# EAGLE library part L6390_DRIVER (library motocontro_rev_4)
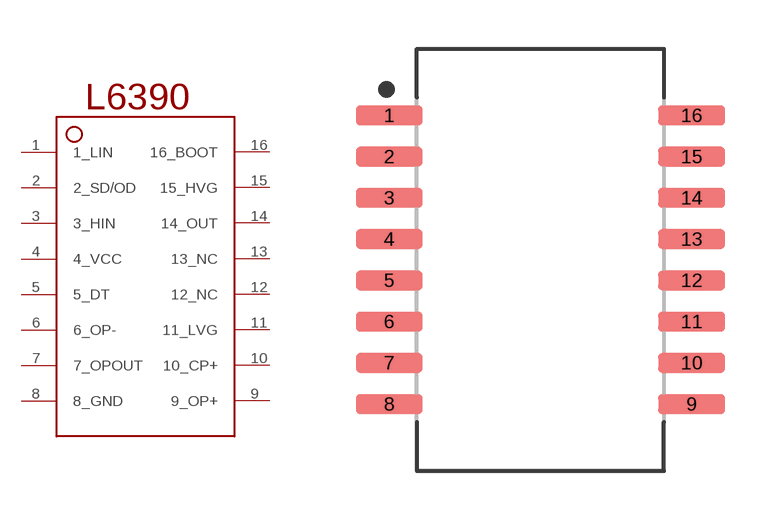
[diagram p0: symbol with the pads of SOIC127P1032X265-16; footprint SOIC127P1032X265-16]

Designator prefix -

## L6390_DRIVER  [SOIC127P1032X265-16]
1  1_LIN
2  2_SD/OD
3  3_HIN
4  4_VCC
5  5_DT
6  6_OP-
7  7_OPOUT
8  8_GND
9  9_OP+
10  10_CP+
11  11_LVG
12  12_NC
13  13_NC
14  14_OUT
15  15_HVG
16  16_BOOT

## Footprint SOIC127P1032X265-16 (pad centres in mm)
16-SOIC, 1.27 mm pitch, 10.32 mm span, 12.80 X 7.50 X 2.65 mm body 16-pin SOIC package with 1.27 mm pitch, 10.32 mm span with body size 12.80 X 7.50 X 2.65 mm
smd 2.052 x 0.602: 1 -4.654,4.445; 2 -4.654,3.175; 3 -4.654,1.905; 4 -4.654,0.635; 5 -4.654,-0.635; 6 -4.654,-1.905; 7 -4.654,-3.175; 8 -4.654,-4.445; 9 4.654,-4.445; 10 4.654,-3.175; 11 4.654,-1.905; 12 4.654,-0.635; 13 4.654,0.635; 14 4.654,1.905; 15 4.654,3.175; 16 4.654,4.445